# EAGLE library part VNC2-32L1B (library FTDI_By_element14_Batch_1)
Embedded Dual USB Host Controller
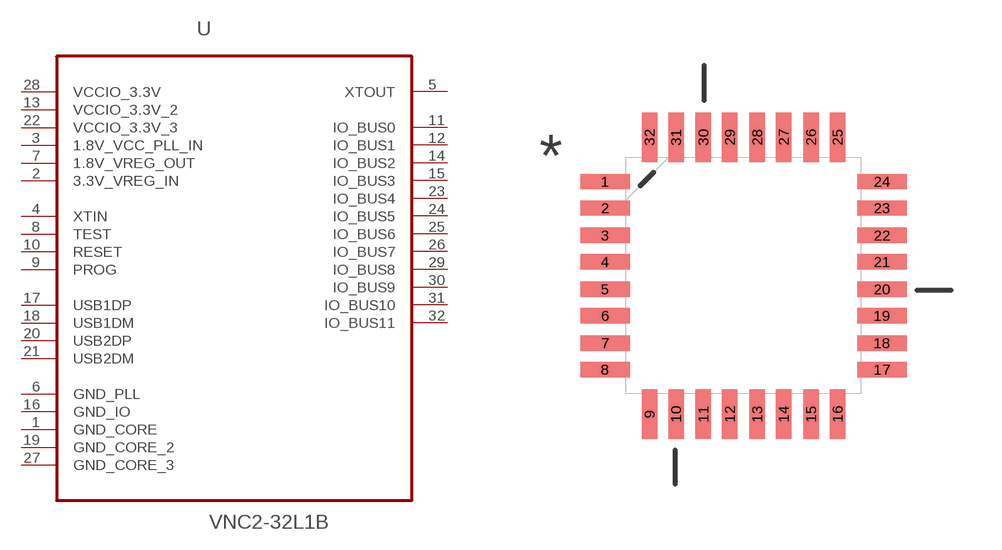
[diagram p0: symbol with the pads of QFP80P900X900X160-33N; footprint QFP80P900X900X160-33N]

Designator prefix U

## VNC2-32L1B (MPN: VNC2-32L1B; OC_FARNELL: 1863854; OC_NEWARK: 27T5918; PACKAGE: QFP-32; SUPPLIER: FTDI)  [QFP80P900X900X160-33N]
1  GND_CORE  pas
2  3.3V_VREG_IN  pwr
3  1.8V_VCC_PLL_IN  pwr
4  XTIN  in
5  XTOUT  out
6  GND_PLL  pas
7  1.8V_VREG_OUT  pwr
8  TEST  in
9  PROG  in
10  RESET
11  IO_BUS0
12  IO_BUS1
13  VCCIO_3.3V_2  pwr
14  IO_BUS2
15  IO_BUS3
16  GND_IO  pas
17  USB1DP
18  USB1DM
19  GND_CORE_2  pas
20  USB2DP
21  USB2DM
22  VCCIO_3.3V_3  pwr
23  IO_BUS4
24  IO_BUS5
25  IO_BUS6
26  IO_BUS7
27  GND_CORE_3  pas
28  VCCIO_3.3V  pwr
29  IO_BUS8
30  IO_BUS9
31  IO_BUS10
32  IO_BUS11

## Footprint QFP80P900X900X160-33N (pad centres in mm)
smd 1.473 x 0.457: 1 -4.115,2.794; 2 -4.115,2.007; 3 -4.115,1.194; 4 -4.115,0.406; 5 -4.115,-0.406; 6 -4.115,-1.194; 7 -4.115,-2.007; 8 -4.115,-2.794; 17 4.115,-2.794; 18 4.115,-2.007; 19 4.115,-1.194; 20 4.115,-0.406; 21 4.115,0.406; 22 4.115,1.194; 23 4.115,2.007; 24 4.115,2.794
smd 0.457 x 1.473: 9 -2.794,-4.115; 10 -2.007,-4.115; 11 -1.194,-4.115; 12 -0.406,-4.115; 13 0.406,-4.115; 14 1.194,-4.115; 15 2.007,-4.115; 16 2.794,-4.115; 25 2.794,4.115; 26 2.007,4.115; 27 1.194,4.115; 28 0.406,4.115; 29 -0.406,4.115; 30 -1.194,4.115; 31 -2.007,4.115; 32 -2.794,4.115